# Altium footprint library UPS_PcbLib.PcbLib: 2 footprints
Each footprint in its own frame and in the unit in brackets; x right, y up, seen from the top. Pads: shape width x height; smd on the part's side, far side on the other; paste and mask are expansions set on the pad; w line width, h text height; cw(c..) or ccw(c..) is an arc to the next point about the centre after c.
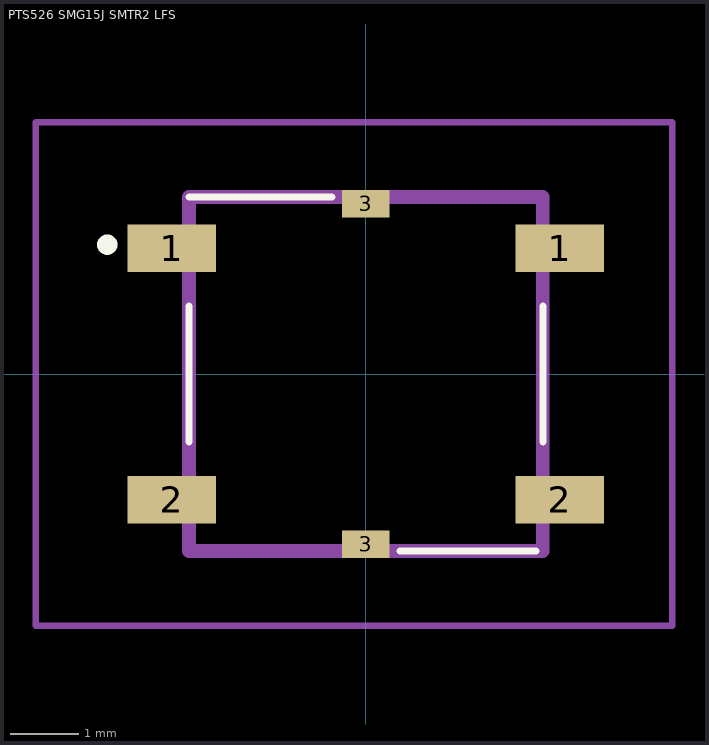
[diagram p0: the footprints below, top view; thin cyan lines are the x and y axes]

## PCBComponent_1 [mm]

## PTS526 SMG15J SMTR2 LFS [mm] "Tactile Switches 50mA 12VDC, 5.2x5.2mm, 1.5mm H, metal actuator"
pads (6):
  rect 1.3x0.7 smd: 1(-2.85,1.85) 1(2.85,1.85) 2(-2.85,-1.85) 2(2.85,-1.85)
  rect 0.7x0.4 smd: 3(0,-2.5) 3(0,2.5)
Top Overlay:
  lines w0.1: -2.6,-1 -2.6,1 ; -2.6,2.6 -0.5,2.6 ; 0.5,-2.6 2.5,-2.6 ; 2.6,-1 2.6,1
  lines w0.2: -3.8,1.85 ccw(c-3.8,1.9) -3.8,1.95 ccw(c-3.8,1.9) -3.8,1.85
Mechanical 13:
  lines w0.2: -2.6,-2.6 2.6,-2.6 2.6,2.6 -2.6,2.6 -2.6,-2.6
Mechanical 15:
  lines w0.1: -4.85,-3.7 4.5,-3.7 4.5,3.7 -4.85,3.7 -4.85,-3.7
3D body "PTS526_SMG15J_SMTR2_LFS.stp": height 1.7, standoff 0, extent -3.2,-2.6 3.2,2.6